# Altium footprint library hello.PcbLib: 23 footprints (part 1 of 2)
Each footprint in its own frame and in the unit in brackets; x right, y up, seen from the top. Pads: shape width x height; smd on the part's side, far side on the other; paste and mask are expansions set on the pad; w line width, h text height; cw(c..) or ccw(c..) is an arc to the next point about the centre after c.
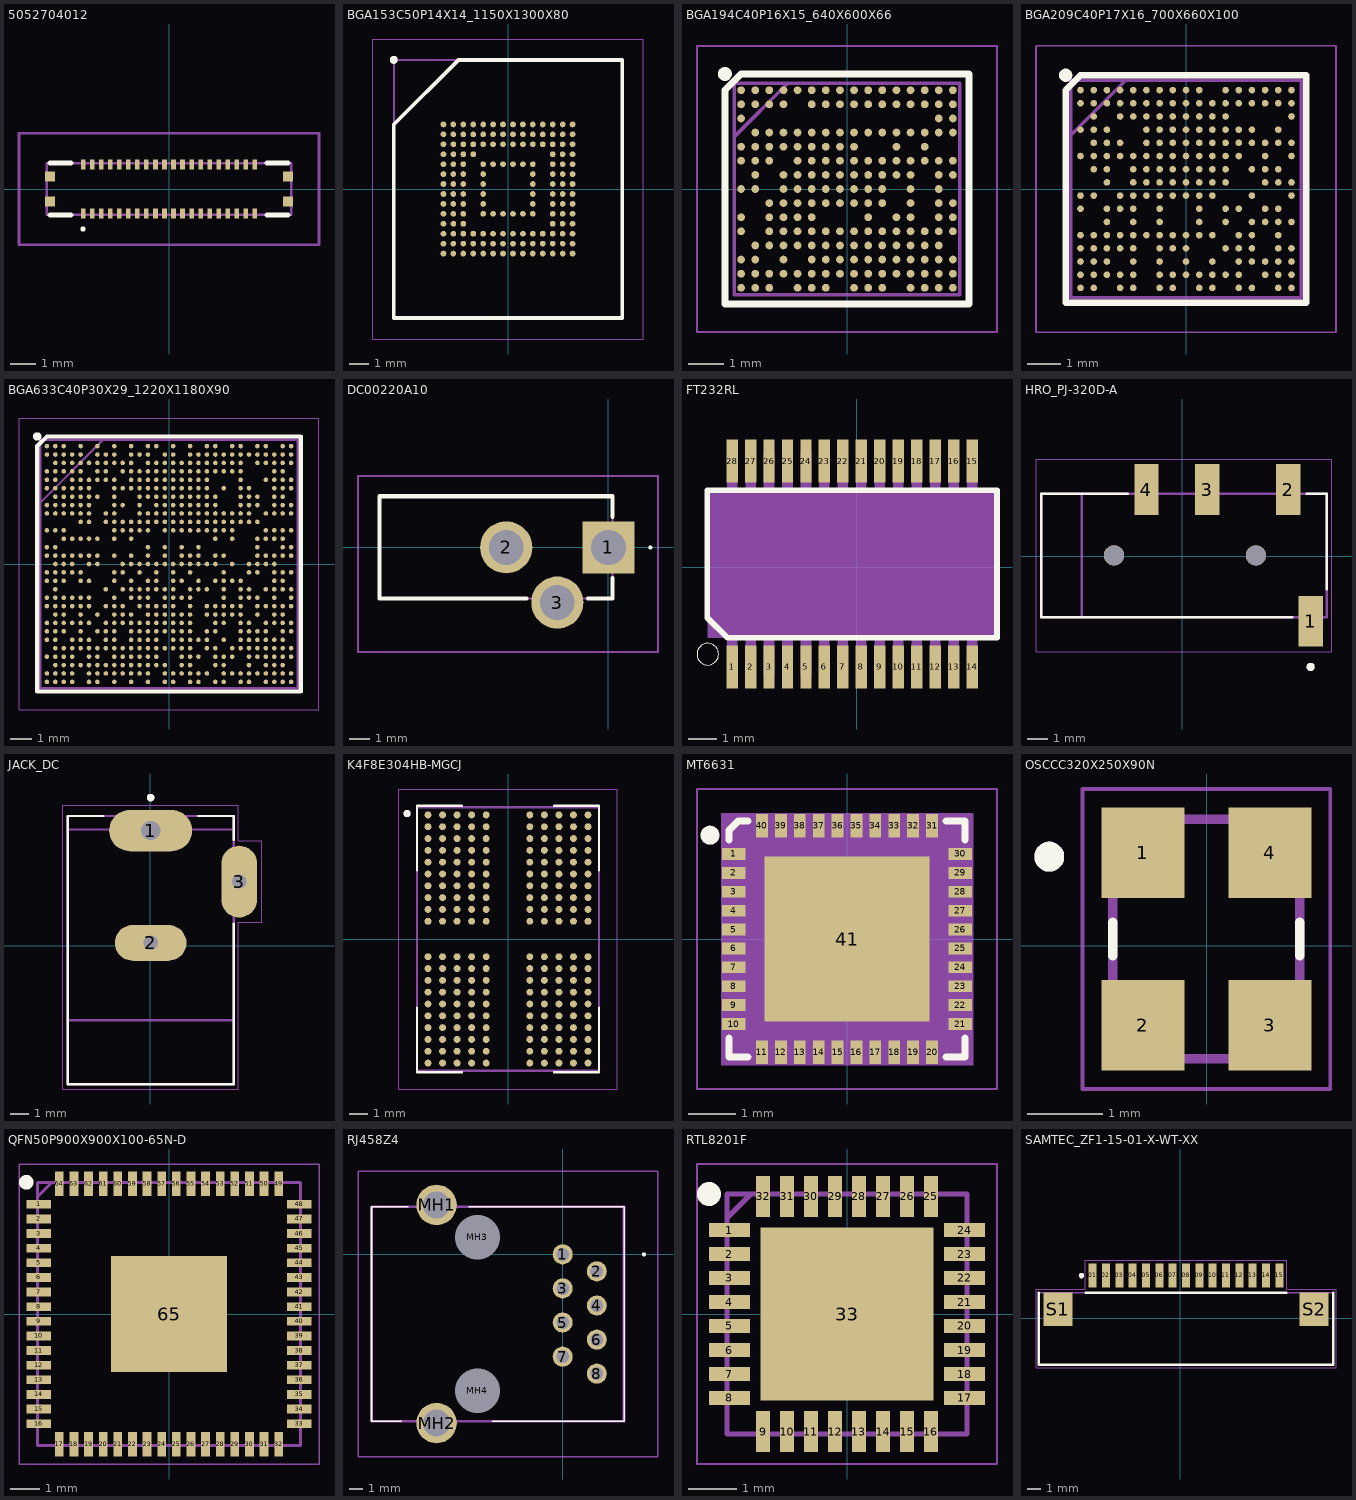
[diagram p0: the footprints below, top view; thin cyan lines are the x and y axes]

## 5052704012 [mm]
pads (44):
  rect 0.18x0.4 smd: 1(-3.325,-0.95) 2(-3.325,0.95) 3(-2.975,-0.95) 4(-2.975,0.95) 5(-2.625,-0.95) 6(-2.625,0.95) 7(-2.275,-0.95) 8(-2.275,0.95) 9(-1.925,-0.95) 10(-1.925,0.95) 11(-1.575,-0.95) 12(-1.575,0.95) 13(-1.225,-0.95) 14(-1.225,0.95) 15(-0.875,-0.95) 16(-0.875,0.95) 17(-0.525,-0.95) 18(-0.525,0.95) 19(-0.175,-0.95) 20(-0.175,0.95) 21(0.175,-0.95) 22(0.175,0.95) 23(0.525,-0.95) 24(0.525,0.95) 25(0.875,-0.95) 26(0.875,0.95) 27(1.225,-0.95) 28(1.225,0.95) 29(1.575,-0.95) 30(1.575,0.95) 31(1.925,-0.95) 32(1.925,0.95) 33(2.275,-0.95) 34(2.275,0.95) 35(2.625,-0.95) 36(2.625,0.95) 37(2.975,-0.95) 38(2.975,0.95) 39(3.325,-0.95) 40(3.325,0.95)
  rect 0.4x0.385 smd: MP1(-4.605,-0.482) MP2(-4.605,0.482) MP3(4.605,-0.482) MP4(4.605,0.482)
Top Overlay:
  lines w0.1: -3.325,-1.6 cw(c-3.325,-1.55) -3.325,-1.5 cw(c-3.325,-1.55) -3.325,-1.6
  lines w0.2: -4.6,-1 -3.8,-1 ; -4.6,1 -3.8,1 ; 3.8,-1 4.6,-1 ; 3.8,1 4.6,1
Mechanical 13:
  lines w0.1: -4.725,-1 4.725,-1 4.725,1 -4.725,1 -4.725,-1
Mechanical 15:
  lines w0.1: -5.805,-2.15 5.805,-2.15 5.805,2.15 -5.805,2.15 -5.805,-2.15
3D body "5052704012.stp": height 0.88, standoff 0, extent -4.767,-1.132 4.767,1.132

## BGA153C50P14X14_1150X1300X80 [mm]
pads (153):
  round 0.29 smd: A1(-3.25,3.25) A2(-2.75,3.25) A3(-2.25,3.25) A4(-1.75,3.25) A5(-1.25,3.25) A6(-0.75,3.25) A7(-0.25,3.25) A8(0.25,3.25) A9(0.75,3.25) A10(1.25,3.25) A11(1.75,3.25) A12(2.25,3.25) A13(2.75,3.25) A14(3.25,3.25) B1(-3.25,2.75) B2(-2.75,2.75) B3(-2.25,2.75) B4(-1.75,2.75) B5(-1.25,2.75) B6(-0.75,2.75) B7(-0.25,2.75) B8(0.25,2.75) B9(0.75,2.75) B10(1.25,2.75) B11(1.75,2.75) B12(2.25,2.75) B13(2.75,2.75) B14(3.25,2.75) C1(-3.25,2.25) C2(-2.75,2.25) C3(-2.25,2.25) C4(-1.75,2.25) C5(-1.25,2.25) C6(-0.75,2.25) C7(-0.25,2.25) C8(0.25,2.25) C9(0.75,2.25) C10(1.25,2.25) C11(1.75,2.25) C12(2.25,2.25) C13(2.75,2.25) C14(3.25,2.25) D1(-3.25,1.75) D2(-2.75,1.75) D3(-2.25,1.75) D4(-1.75,1.75) D12(2.25,1.75) D13(2.75,1.75) D14(3.25,1.75) E1(-3.25,1.25) E2(-2.75,1.25) E3(-2.25,1.25) E5(-1.25,1.25) E6(-0.75,1.25) E7(-0.25,1.25) E8(0.25,1.25) E9(0.75,1.25) E10(1.25,1.25) E12(2.25,1.25) E13(2.75,1.25) E14(3.25,1.25) F1(-3.25,0.75) F2(-2.75,0.75) F3(-2.25,0.75) F5(-1.25,0.75) F10(1.25,0.75) F12(2.25,0.75) F13(2.75,0.75) F14(3.25,0.75) G1(-3.25,0.25) G2(-2.75,0.25) G3(-2.25,0.25) G5(-1.25,0.25) G10(1.25,0.25) G12(2.25,0.25) G13(2.75,0.25) G14(3.25,0.25) H1(-3.25,-0.25) H2(-2.75,-0.25) H3(-2.25,-0.25) H5(-1.25,-0.25) H10(1.25,-0.25) H12(2.25,-0.25) H13(2.75,-0.25) H14(3.25,-0.25) J1(-3.25,-0.75) J2(-2.75,-0.75) J3(-2.25,-0.75) J5(-1.25,-0.75) J10(1.25,-0.75) J12(2.25,-0.75) J13(2.75,-0.75) J14(3.25,-0.75) K1(-3.25,-1.25) K2(-2.75,-1.25) K3(-2.25,-1.25) K5(-1.25,-1.25) K6(-0.75,-1.25) K7(-0.25,-1.25) K8(0.25,-1.25) K9(0.75,-1.25) K10(1.25,-1.25) K12(2.25,-1.25) K13(2.75,-1.25) K14(3.25,-1.25) L1(-3.25,-1.75) L2(-2.75,-1.75) L3(-2.25,-1.75) L12(2.25,-1.75) L13(2.75,-1.75) L14(3.25,-1.75) M1(-3.25,-2.25) M2(-2.75,-2.25) M3(-2.25,-2.25) M4(-1.75,-2.25) M5(-1.25,-2.25) M6(-0.75,-2.25) M7(-0.25,-2.25) M8(0.25,-2.25) M9(0.75,-2.25) M10(1.25,-2.25) M11(1.75,-2.25) M12(2.25,-2.25) M13(2.75,-2.25) M14(3.25,-2.25) N1(-3.25,-2.75) N2(-2.75,-2.75) N3(-2.25,-2.75) N4(-1.75,-2.75) N5(-1.25,-2.75) N6(-0.75,-2.75) N7(-0.25,-2.75) N8(0.25,-2.75) N9(0.75,-2.75) N10(1.25,-2.75) N11(1.75,-2.75) N12(2.25,-2.75) N13(2.75,-2.75) N14(3.25,-2.75) P1(-3.25,-3.25) P2(-2.75,-3.25) P3(-2.25,-3.25) P4(-1.75,-3.25) P5(-1.25,-3.25) P6(-0.75,-3.25) P7(-0.25,-3.25) P8(0.25,-3.25) P9(0.75,-3.25) P10(1.25,-3.25) P11(1.75,-3.25) P12(2.25,-3.25) P13(2.75,-3.25) P14(3.25,-3.25)
Top Overlay:
  circle w0.2: c-5.75,6.5 r0.1
  lines w0.2: -5.75,-6.5 5.75,-6.5 5.75,6.5 -2.5,6.5 -5.75,3.25 -5.75,-6.5
Mechanical 13:
  lines w0.1: -5.75,3.225 -2.475,6.5 ; -5.75,-6.5 5.75,-6.5 5.75,6.5 -5.75,6.5 -5.75,-6.5
Mechanical 15:
  lines w0.05: -6.8,-7.55 6.8,-7.55 6.8,7.55 -6.8,7.55 -6.8,-7.55
3D body "KLMAG1JETD-B041.stp": height 0.8, standoff 0, extent -5.75,-6.5 5.75,6.5

## BGA194C40P16X15_640X600X66 [mm]
pads (194):
  round 0.22 smd: A1(-3,2.8) A2(-2.6,2.8) A3(-2.2,2.8) A4(-1.8,2.8) A5(-1.4,2.8) A6(-1,2.8) A7(-0.6,2.8) A8(-0.2,2.8) A9(0.2,2.8) A10(0.6,2.8) A11(1,2.8) A12(1.4,2.8) A13(1.8,2.8) A14(2.2,2.8) A15(2.6,2.8) A16(3,2.8) B1(-3,2.4) B2(-2.6,2.4) B3(-2.2,2.4) B4(-1.8,2.4) B6(-1,2.4) B7(-0.6,2.4) B8(-0.2,2.4) B9(0.2,2.4) B10(0.6,2.4) B11(1,2.4) B12(1.4,2.4) B13(1.8,2.4) B14(2.2,2.4) B15(2.6,2.4) B16(3,2.4) C1(-3,2) C15(2.6,2) C16(3,2) D2(-2.6,1.6) D3(-2.2,1.6) D4(-1.8,1.6) D5(-1.4,1.6) D6(-1,1.6) D7(-0.6,1.6) D8(-0.2,1.6) D9(0.2,1.6) D10(0.6,1.6) D11(1,1.6) D12(1.4,1.6) D13(1.8,1.6) D14(2.2,1.6) D15(2.6,1.6) D16(3,1.6) E1(-3,1.2) E2(-2.6,1.2) E3(-2.2,1.2) E4(-1.8,1.2) E5(-1.4,1.2) E6(-1,1.2) E7(-0.6,1.2) E8(-0.2,1.2) E9(0.2,1.2) E12(1.4,1.2) E14(2.2,1.2) F1(-3,0.8) F2(-2.6,0.8) F3(-2.2,0.8) F5(-1.4,0.8) F6(-1,0.8) F7(-0.6,0.8) F8(-0.2,0.8) F9(0.2,0.8) F10(0.6,0.8) F11(1,0.8) F12(1.4,0.8) F13(1.8,0.8) F14(2.2,0.8) F15(2.6,0.8) F16(3,0.8) G2(-2.6,0.4) G4(-1.8,0.4) G5(-1.4,0.4) G6(-1,0.4) G7(-0.6,0.4) G8(-0.2,0.4) G9(0.2,0.4) G10(0.6,0.4) G11(1,0.4) G12(1.4,0.4) G13(1.8,0.4) G15(2.6,0.4) G16(3,0.4) H1(-3,0) H2(-2.6,0) H4(-1.8,0) H5(-1.4,0) H6(-1,0) H7(-0.6,0) H8(-0.2,0) H9(0.2,0) H10(0.6,0) H11(1,0) H13(1.8,0) H15(2.6,0) J3(-2.2,-0.4) J4(-1.8,-0.4) J5(-1.4,-0.4) J6(-1,-0.4) J7(-0.6,-0.4) J8(-0.2,-0.4) J9(0.2,-0.4) J10(0.6,-0.4) J11(1,-0.4) J13(1.8,-0.4) J15(2.6,-0.4) J16(3,-0.4) K1(-3,-0.8) K3(-2.2,-0.8) K4(-1.8,-0.8) K5(-1.4,-0.8) K6(-1,-0.8) K10(0.6,-0.8) K12(1.4,-0.8) K13(1.8,-0.8) K15(2.6,-0.8) K16(3,-0.8) L1(-3,-1.2) L3(-2.2,-1.2) L4(-1.8,-1.2) L5(-1.4,-1.2) L6(-1,-1.2) L7(-0.6,-1.2) L8(-0.2,-1.2) L9(0.2,-1.2) L10(0.6,-1.2) L11(1,-1.2) L12(1.4,-1.2) L13(1.8,-1.2) L14(2.2,-1.2) L15(2.6,-1.2) L16(3,-1.2) M2(-2.6,-1.6) M3(-2.2,-1.6) M4(-1.8,-1.6) M5(-1.4,-1.6) M6(-1,-1.6) M7(-0.6,-1.6) M8(-0.2,-1.6) M9(0.2,-1.6) M10(0.6,-1.6) M11(1,-1.6) M12(1.4,-1.6) M13(1.8,-1.6) M14(2.2,-1.6) M15(2.6,-1.6) N1(-3,-2) N2(-2.6,-2) N4(-1.8,-2) N6(-1,-2) N7(-0.6,-2) N8(-0.2,-2) N9(0.2,-2) N10(0.6,-2) N11(1,-2) N12(1.4,-2) N13(1.8,-2) N14(2.2,-2) N15(2.6,-2) N16(3,-2) P1(-3,-2.4) P2(-2.6,-2.4) P3(-2.2,-2.4) P4(-1.8,-2.4) P5(-1.4,-2.4) P6(-1,-2.4) P7(-0.6,-2.4) P8(-0.2,-2.4) P9(0.2,-2.4) P10(0.6,-2.4) P11(1,-2.4) P12(1.4,-2.4) P13(1.8,-2.4) P14(2.2,-2.4) P15(2.6,-2.4) P16(3,-2.4) R1(-3,-2.8) R2(-2.6,-2.8) R3(-2.2,-2.8) R5(-1.4,-2.8) R6(-1,-2.8) R7(-0.6,-2.8) R9(0.2,-2.8) R10(0.6,-2.8) R11(1,-2.8) R13(1.8,-2.8) R14(2.2,-2.8) R15(2.6,-2.8) R16(3,-2.8)
Top Overlay:
  circle w0.2: c-3.46,3.26 r0.1
  lines w0.2: -3.46,-3.26 3.46,-3.26 3.46,3.26 -3,3.26 -3.46,2.8 -3.46,-3.26
Mechanical 13:
  lines w0.1: -3.2,1.475 -1.675,3 ; -3.2,-3 3.2,-3 3.2,3 -3.2,3 -3.2,-3
Mechanical 15:
  lines w0.05: -4.25,-4.05 4.25,-4.05 4.25,4.05 -4.25,4.05 -4.25,-4.05
3D body "MT6358W_A.stp": height 0.66, standoff 0, extent -3.2,-3 3.2,3

## BGA209C40P17X16_700X660X100 [mm]
pads (209):
  round 0.2 smd: A1(-3.2,3) A2(-2.8,3) A3(-2.4,3) A4(-2,3) A5(-1.6,3) A6(-1.2,3) A7(-0.8,3) A8(-0.4,3) A9(0,3) A10(0.4,3) A12(1.2,3) A13(1.6,3) A14(2,3) A15(2.4,3) A16(2.8,3) A17(3.2,3) B1(-3.2,2.6) B2(-2.8,2.6) B3(-2.4,2.6) B4(-2,2.6) B5(-1.6,2.6) B6(-1.2,2.6) B7(-0.8,2.6) B8(-0.4,2.6) B9(0,2.6) B10(0.4,2.6) B11(0.8,2.6) B12(1.2,2.6) B13(1.6,2.6) B14(2,2.6) B15(2.4,2.6) B16(2.8,2.6) B17(3.2,2.6) C2(-2.8,2.2) C4(-2,2.2) C5(-1.6,2.2) C6(-1.2,2.2) C7(-0.8,2.2) C8(-0.4,2.2) C9(0,2.2) C10(0.4,2.2) C11(0.8,2.2) C12(1.2,2.2) C17(3.2,2.2) D1(-3.2,1.8) D2(-2.8,1.8) D3(-2.4,1.8) D6(-1.2,1.8) D7(-0.8,1.8) D8(-0.4,1.8) D9(0,1.8) D10(0.4,1.8) D11(0.8,1.8) D12(1.2,1.8) D13(1.6,1.8) D14(2,1.8) D16(2.8,1.8) E2(-2.8,1.4) E3(-2.4,1.4) E4(-2,1.4) E6(-1.2,1.4) E7(-0.8,1.4) E8(-0.4,1.4) E9(0,1.4) E10(0.4,1.4) E11(0.8,1.4) E12(1.2,1.4) E13(1.6,1.4) E14(2,1.4) E15(2.4,1.4) E16(2.8,1.4) E17(3.2,1.4) F1(-3.2,1) F2(-2.8,1) F3(-2.4,1) F4(-2,1) F5(-1.6,1) F6(-1.2,1) F7(-0.8,1) F8(-0.4,1) F9(0,1) F10(0.4,1) F11(0.8,1) F12(1.2,1) F13(1.6,1) F15(2.4,1) F17(3.2,1) G2(-2.8,0.6) G3(-2.4,0.6) G5(-1.6,0.6) G6(-1.2,0.6) G7(-0.8,0.6) G8(-0.4,0.6) G9(0,0.6) G10(0.4,0.6) G11(0.8,0.6) G12(1.2,0.6) G14(2,0.6) G15(2.4,0.6) G16(2.8,0.6) H3(-2.4,0.2) H5(-1.6,0.2) H6(-1.2,0.2) H7(-0.8,0.2) H8(-0.4,0.2) H9(0,0.2) H10(0.4,0.2) H11(0.8,0.2) H12(1.2,0.2) H15(2.4,0.2) H16(2.8,0.2) H17(3.2,0.2) J1(-3.2,-0.2) J2(-2.8,-0.2) J4(-2,-0.2) J5(-1.6,-0.2) J6(-1.2,-0.2) J7(-0.8,-0.2) J8(-0.4,-0.2) J9(0,-0.2) J10(0.4,-0.2) J11(0.8,-0.2) J14(2,-0.2) J17(3.2,-0.2) K1(-3.2,-0.6) K3(-2.4,-0.6) K4(-2,-0.6) K5(-1.6,-0.6) K7(-0.8,-0.6) K10(0.4,-0.6) K12(1.2,-0.6) K13(1.6,-0.6) K15(2.4,-0.6) K16(2.8,-0.6) L3(-2.4,-1) L5(-1.6,-1) L7(-0.8,-1) L10(0.4,-1) L12(1.2,-1) L14(2,-1) L15(2.4,-1) L16(2.8,-1) L17(3.2,-1) M1(-3.2,-1.4) M2(-2.8,-1.4) M3(-2.4,-1.4) M4(-2,-1.4) M5(-1.6,-1.4) M6(-1.2,-1.4) M7(-0.8,-1.4) M8(-0.4,-1.4) M9(0,-1.4) M10(0.4,-1.4) M11(0.8,-1.4) M13(1.6,-1.4) M14(2,-1.4) M16(2.8,-1.4) N1(-3.2,-1.8) N2(-2.8,-1.8) N3(-2.4,-1.8) N4(-2,-1.8) N5(-1.6,-1.8) N7(-0.8,-1.8) N8(-0.4,-1.8) N9(0,-1.8) N12(1.2,-1.8) N13(1.6,-1.8) N14(2,-1.8) N16(2.8,-1.8) N17(3.2,-1.8) P1(-3.2,-2.2) P2(-2.8,-2.2) P3(-2.4,-2.2) P5(-1.6,-2.2) P7(-0.8,-2.2) P9(0,-2.2) P11(0.8,-2.2) P13(1.6,-2.2) P14(2,-2.2) P15(2.4,-2.2) P16(2.8,-2.2) P17(3.2,-2.2) R1(-3.2,-2.6) R2(-2.8,-2.6) R3(-2.4,-2.6) R4(-2,-2.6) R5(-1.6,-2.6) R7(-0.8,-2.6) R8(-0.4,-2.6) R9(0,-2.6) R10(0.4,-2.6) R11(0.8,-2.6) R12(1.2,-2.6) R13(1.6,-2.6) R15(2.4,-2.6) R16(2.8,-2.6) R17(3.2,-2.6) T1(-3.2,-3) T2(-2.8,-3) T4(-2,-3) T5(-1.6,-3) T7(-0.8,-3) T8(-0.4,-3) T10(0.4,-3) T11(0.8,-3) T13(1.6,-3) T14(2,-3) T16(2.8,-3) T17(3.2,-3)
Top Overlay:
  circle w0.2: c-3.65,3.45 r0.1
  lines w0.2: -3.65,-3.45 -3.65,3 -3.2,3.45 3.65,3.45 3.65,-3.45 -3.65,-3.45
Mechanical 13:
  lines w0.1: -3.5,1.625 -1.825,3.3 ; -3.5,-3.3 -3.5,3.3 3.5,3.3 3.5,-3.3 -3.5,-3.3
Mechanical 15:
  lines w0.05: -4.55,-4.35 -4.55,4.35 4.55,4.35 4.55,-4.35 -4.55,-4.35
3D body "MT6357ARV_A.stp": height 1, standoff 0, extent -3.5,-3.3 3.5,3.3

## BGA633C40P30X29_1220X1180X90 [mm]
pads (633):
  round 0.216 smd: A1(-5.8,5.6) A2(-5.4,5.6) A3(-5,5.6) A5(-4.2,5.6) A7(-3.4,5.6) A9(-2.6,5.6) A11(-1.8,5.6) A13(-1,5.6) A14(-0.6,5.6) A16(0.2,5.6) A18(1,5.6) A20(1.8,5.6) A21(2.2,5.6) A23(3,5.6) A24(3.4,5.6) A26(4.2,5.6) A27(4.6,5.6) A29(5.4,5.6) A30(5.8,5.6) AA2(-5.4,-2.4) AA3(-5,-2.4) AA5(-4.2,-2.4) AA7(-3.4,-2.4) AA9(-2.6,-2.4) AA10(-2.2,-2.4) AA11(-1.8,-2.4) AA13(-1,-2.4) AA14(-0.6,-2.4) AA15(-0.2,-2.4) AA16(0.2,-2.4) AA17(0.6,-2.4) AA18(1,-2.4) AA20(1.8,-2.4) AA21(2.2,-2.4) AA22(2.6,-2.4) AA23(3,-2.4) AA24(3.4,-2.4) AA26(4.2,-2.4) AA28(5,-2.4) AA29(5.4,-2.4) AB1(-5.8,-2.8) AB2(-5.4,-2.8) AB3(-5,-2.8) AB4(-4.6,-2.8) AB5(-4.2,-2.8) AB6(-3.8,-2.8) AB8(-3,-2.8) AB9(-2.6,-2.8) AB10(-2.2,-2.8) AB11(-1.8,-2.8) AB12(-1.4,-2.8) AB13(-1,-2.8) AB14(-0.6,-2.8) AB15(-0.2,-2.8) AB16(0.2,-2.8) AB17(0.6,-2.8) AB18(1,-2.8) AB21(2.2,-2.8) AB22(2.6,-2.8) AB24(3.4,-2.8) AB25(3.8,-2.8) AB27(4.6,-2.8) AB28(5,-2.8) AB29(5.4,-2.8) AB30(5.8,-2.8) AC1(-5.8,-3.2) AC2(-5.4,-3.2) AC3(-5,-3.2) AC5(-4.2,-3.2) AC7(-3.4,-3.2) AC8(-3,-3.2) AC9(-2.6,-3.2) AC11(-1.8,-3.2) AC12(-1.4,-3.2) AC13(-1,-3.2) AC14(-0.6,-3.2) AC15(-0.2,-3.2) AC16(0.2,-3.2) AC17(0.6,-3.2) AC18(1,-3.2) AC20(1.8,-3.2) AC21(2.2,-3.2) AC24(3.4,-3.2) AC25(3.8,-3.2) AC26(4.2,-3.2) AC27(4.6,-3.2) AC29(5.4,-3.2) AC30(5.8,-3.2) AD1(-5.8,-3.6) AD2(-5.4,-3.6) AD4(-4.6,-3.6) AD5(-4.2,-3.6) AD6(-3.8,-3.6) AD8(-3,-3.6) AD9(-2.6,-3.6) AD11(-1.8,-3.6) AD12(-1.4,-3.6) AD13(-1,-3.6) AD14(-0.6,-3.6) AD16(0.2,-3.6) AD17(0.6,-3.6) AD18(1,-3.6) AD19(1.4,-3.6) AD20(1.8,-3.6) AD22(2.6,-3.6) AD24(3.4,-3.6) AD25(3.8,-3.6) AD26(4.2,-3.6) AD27(4.6,-3.6) AD28(5,-3.6) AD29(5.4,-3.6) AE2(-5.4,-4) AE3(-5,-4) AE4(-4.6,-4) AE5(-4.2,-4) AE6(-3.8,-4) AE7(-3.4,-4) AE8(-3,-4) AE9(-2.6,-4) AE10(-2.2,-4) AE11(-1.8,-4) AE12(-1.4,-4) AE13(-1,-4) AE14(-0.6,-4) AE15(-0.2,-4) AE16(0.2,-4) AE17(0.6,-4) AE18(1,-4) AE20(1.8,-4) AE21(2.2,-4) AE23(3,-4) AE24(3.4,-4) AE25(3.8,-4) AE26(4.2,-4) AE27(4.6,-4) AE28(5,-4) AE29(5.4,-4) AE30(5.8,-4) AF1(-5.8,-4.4) AF2(-5.4,-4.4) AF3(-5,-4.4) AF4(-4.6,-4.4) AF6(-3.8,-4.4) AF7(-3.4,-4.4) AF9(-2.6,-4.4) AF10(-2.2,-4.4) AF11(-1.8,-4.4) AF12(-1.4,-4.4) AF13(-1,-4.4) AF14(-0.6,-4.4) AF17(0.6,-4.4) AF18(1,-4.4) AF19(1.4,-4.4) AF21(2.2,-4.4) AF22(2.6,-4.4) AF23(3,-4.4) AF25(3.8,-4.4) AF26(4.2,-4.4) AF27(4.6,-4.4) AF28(5,-4.4) AF29(5.4,-4.4) AF30(5.8,-4.4) AG2(-5.4,-4.8) AG3(-5,-4.8) AG4(-4.6,-4.8) AG5(-4.2,-4.8) AG6(-3.8,-4.8) AG7(-3.4,-4.8) AG8(-3,-4.8) AG9(-2.6,-4.8) AG10(-2.2,-4.8) AG11(-1.8,-4.8) AG12(-1.4,-4.8) AG13(-1,-4.8) AG14(-0.6,-4.8) AG15(-0.2,-4.8) AG17(0.6,-4.8) AG18(1,-4.8) AG21(2.2,-4.8) AG22(2.6,-4.8) AG25(3.8,-4.8) AG27(4.6,-4.8) AG28(5,-4.8) AG29(5.4,-4.8) AH1(-5.8,-5.2) AH2(-5.4,-5.2) AH3(-5,-5.2) AH4(-4.6,-5.2) AH6(-3.8,-5.2) AH7(-3.4,-5.2) AH8(-3,-5.2) AH9(-2.6,-5.2) AH10(-2.2,-5.2) AH11(-1.8,-5.2) AH12(-1.4,-5.2) AH13(-1,-5.2) AH15(-0.2,-5.2) AH16(0.2,-5.2) AH17(0.6,-5.2) AH18(1,-5.2) AH19(1.4,-5.2) AH20(1.8,-5.2) AH22(2.6,-5.2) AH23(3,-5.2) AH24(3.4,-5.2) AH25(3.8,-5.2) AH26(4.2,-5.2) AH27(4.6,-5.2) AH28(5,-5.2) AH29(5.4,-5.2) AH30(5.8,-5.2) AJ1(-5.8,-5.6) AJ2(-5.4,-5.6) AJ3(-5,-5.6) AJ4(-4.6,-5.6) AJ6(-3.8,-5.6) AJ7(-3.4,-5.6) AJ9(-2.6,-5.6) AJ11(-1.8,-5.6) AJ13(-1,-5.6) AJ15(-0.2,-5.6) AJ16(0.2,-5.6) AJ18(1,-5.6) AJ19(1.4,-5.6) AJ21(2.2,-5.6) AJ22(2.6,-5.6) AJ24(3.4,-5.6) AJ25(3.8,-5.6) AJ27(4.6,-5.6) AJ28(5,-5.6) AJ29(5.4,-5.6) AJ30(5.8,-5.6) B1(-5.8,5.2) B2(-5.4,5.2) B3(-5,5.2) B4(-4.6,5.2) B5(-4.2,5.2) B7(-3.4,5.2) B8(-3,5.2) B9(-2.6,5.2) B11(-1.8,5.2) B12(-1.4,5.2) B13(-1,5.2) B15(-0.2,5.2) B16(0.2,5.2) B18(1,5.2) B19(1.4,5.2) B20(1.8,5.2) B21(2.2,5.2) B22(2.6,5.2) B23(3,5.2) B24(3.4,5.2) B25(3.8,5.2) B26(4.2,5.2) B27(4.6,5.2) B28(5,5.2) B29(5.4,5.2) B30(5.8,5.2) C2(-5.4,4.8) C3(-5,4.8) C4(-4.6,4.8) C5(-4.2,4.8) C6(-3.8,4.8) C7(-3.4,4.8) C8(-3,4.8) C9(-2.6,4.8) C10(-2.2,4.8) C11(-1.8,4.8) C13(-1,4.8) C14(-0.6,4.8) C15(-0.2,4.8) C16(0.2,4.8) C17(0.6,4.8) C18(1,4.8) C19(1.4,4.8) C20(1.8,4.8) C21(2.2,4.8) C22(2.6,4.8) C23(3,4.8) C24(3.4,4.8) C26(4.2,4.8) C27(4.6,4.8) C28(5,4.8) C29(5.4,4.8) C30(5.8,4.8) D1(-5.8,4.4) D2(-5.4,4.4) D3(-5,4.4) D4(-4.6,4.4) D5(-4.2,4.4) D7(-3.4,4.4) D8(-3,4.4) D10(-2.2,4.4) D11(-1.8,4.4) D12(-1.4,4.4) D13(-1,4.4) D14(-0.6,4.4) D15(-0.2,4.4) D16(0.2,4.4) D17(0.6,4.4) D18(1,4.4) D19(1.4,4.4) D20(1.8,4.4) D21(2.2,4.4) D22(2.6,4.4) D23(3,4.4) D24(3.4,4.4) D28(5,4.4) D29(5.4,4.4) E1(-5.8,4) E2(-5.4,4) E4(-4.6,4) E5(-4.2,4) E6(-3.8,4) E7(-3.4,4) E8(-3,4) E9(-2.6,4) E11(-1.8,4) E12(-1.4,4) E13(-1,4) E14(-0.6,4) E15(-0.2,4) E16(0.2,4) E17(0.6,4) E18(1,4) E19(1.4,4) E20(1.8,4) E24(3.4,4) E27(4.6,4) E28(5,4) E29(5.4,4) E30(5.8,4) F1(-5.8,3.6) F2(-5.4,3.6) F3(-5,3.6) F4(-4.6,3.6) F5(-4.2,3.6) F6(-3.8,3.6) F9(-2.6,3.6) F10(-2.2,3.6) F11(-1.8,3.6) F12(-1.4,3.6) F13(-1,3.6) F14(-0.6,3.6) F15(-0.2,3.6) F16(0.2,3.6) F17(0.6,3.6) F18(1,3.6) F19(1.4,3.6) F20(1.8,3.6) F22(2.6,3.6) F24(3.4,3.6) F25(3.8,3.6) F28(5,3.6) F29(5.4,3.6) F30(5.8,3.6) G2(-5.4,3.2) G3(-5,3.2) G4(-4.6,3.2) G5(-4.2,3.2) G6(-3.8,3.2) G7(-3.4,3.2) G9(-2.6,3.2) G12(-1.4,3.2) G13(-1,3.2) G14(-0.6,3.2) G15(-0.2,3.2) G16(0.2,3.2) G17(0.6,3.2) G18(1,3.2) G19(1.4,3.2) G20(1.8,3.2) G21(2.2,3.2) G24(3.4,3.2) G25(3.8,3.2) G26(4.2,3.2) G28(5,3.2) G29(5.4,3.2) H1(-5.8,2.8) H2(-5.4,2.8) H3(-5,2.8) H4(-4.6,2.8) H5(-4.2,2.8) H6(-3.8,2.8) H9(-2.6,2.8) H10(-2.2,2.8) H12(-1.4,2.8) H14(-0.6,2.8) H15(-0.2,2.8) H16(0.2,2.8) H17(0.6,2.8) H18(1,2.8) H19(1.4,2.8) H20(1.8,2.8) H21(2.2,2.8) H24(3.4,2.8) H25(3.8,2.8) H26(4.2,2.8) H28(5,2.8) H29(5.4,2.8) H30(5.8,2.8) J1(-5.8,2.4) J2(-5.4,2.4) J3(-5,2.4) J4(-4.6,2.4) J5(-4.2,2.4) J6(-3.8,2.4) J8(-3,2.4) J9(-2.6,2.4) J12(-1.4,2.4) J13(-1,2.4) J14(-0.6,2.4) J15(-0.2,2.4) J16(0.2,2.4) J17(0.6,2.4) J18(1,2.4) J19(1.4,2.4) J20(1.8,2.4) J21(2.2,2.4) J22(2.6,2.4) J23(3,2.4) J24(3.4,2.4) J25(3.8,2.4) J27(4.6,2.4) J28(5,2.4) J29(5.4,2.4) J30(5.8,2.4) K5(-4.2,2) K6(-3.8,2) K8(-3,2) K9(-2.6,2) K10(-2.2,2) K11(-1.8,2) K12(-1.4,2) K13(-1,2) K14(-0.6,2) K15(-0.2,2) K16(0.2,2) K17(0.6,2) K18(1,2) K19(1.4,2) K20(1.8,2) K21(2.2,2) K22(2.6,2) K23(3,2) K24(3.4,2) K25(3.8,2) K26(4.2,2) L1(-5.8,1.6) L2(-5.4,1.6) L3(-5,1.6) L9(-2.6,1.6) L10(-2.2,1.6) L11(-1.8,1.6) L12(-1.4,1.6) L13(-1,1.6) L15(-0.2,1.6) L16(0.2,1.6) L17(0.6,1.6) L18(1,1.6) L19(1.4,1.6) L20(1.8,1.6) L21(2.2,1.6) L22(2.6,1.6) L23(3,1.6) L27(4.6,1.6) L28(5,1.6) L29(5.4,1.6) L30(5.8,1.6) M3(-5,1.2) M4(-4.6,1.2) M5(-4.2,1.2) M6(-3.8,1.2) M7(-3.4,1.2) M9(-2.6,1.2) M11(-1.8,1.2) M21(2.2,1.2) M23(3,1.2) M26(4.2,1.2) M27(4.6,1.2) M28(5,1.2) M29(5.4,1.2) N1(-5.8,0.8) N2(-5.4,0.8) N13(-1,0.8) N15(-0.2,0.8) N17(0.6,0.8) N19(1.4,0.8) N26(4.2,0.8) N29(5.4,0.8) N30(5.8,0.8) P1(-5.8,0.4) P2(-5.4,0.4) P3(-5,0.4) P4(-4.6,0.4) P5(-4.2,0.4) P6(-3.8,0.4) P7(-3.4,0.4) P9(-2.6,0.4) P11(-1.8,0.4) P13(-1,0.4) P15(-0.2,0.4) P17(0.6,0.4) P18(1,0.4) P19(1.4,0.4) P21(2.2,0.4) P22(2.6,0.4) P26(4.2,0.4) P27(4.6,0.4) P28(5,0.4) P29(5.4,0.4) P30(5.8,0.4) R2(-5.4,0) R3(-5,0) R4(-4.6,0) R6(-3.8,0) R7(-3.4,0) R10(-2.2,0) R11(-1.8,0) R12(-1.4,0) R13(-1,0) R14(-0.6,0) R15(-0.2,0) R16(0.2,0) R17(0.6,0) R18(1,0) R19(1.4,0) R20(1.8,0) R21(2.2,0) R23(3,0) R25(3.8,0) R26(4.2,0) R27(4.6,0) R28(5,0) T1(-5.8,-0.4) T2(-5.4,-0.4) T3(-5,-0.4) T4(-4.6,-0.4) T5(-4.2,-0.4) T9(-2.6,-0.4) T10(-2.2,-0.4) T12(-1.4,-0.4) T14(-0.6,-0.4) T16(0.2,-0.4) T18(1,-0.4) T22(2.6,-0.4) T25(3.8,-0.4) T26(4.2,-0.4) T28(5,-0.4) T29(5.4,-0.4) T30(5.8,-0.4) U1(-5.8,-0.8) U2(-5.4,-0.8) U3(-5,-0.8) U5(-4.2,-0.8) U6(-3.8,-0.8) U9(-2.6,-0.8) U11(-1.8,-0.8) U13(-1,-0.8) U14(-0.6,-0.8) U16(0.2,-0.8) U17(0.6,-0.8) U19(1.4,-0.8) U21(2.2,-0.8) U22(2.6,-0.8) U23(3,-0.8) U24(3.4,-0.8) U28(5,-0.8) U29(5.4,-0.8) V2(-5.4,-1.2) V8(-3,-1.2) V10(-2.2,-1.2) V11(-1.8,-1.2) V12(-1.4,-1.2) V13(-1,-1.2) V14(-0.6,-1.2) V15(-0.2,-1.2) V16(0.2,-1.2) V18(1,-1.2) V19(1.4,-1.2) V20(1.8,-1.2) V22(2.6,-1.2) V24(3.4,-1.2) V25(3.8,-1.2) V27(4.6,-1.2) V28(5,-1.2) V29(5.4,-1.2) V30(5.8,-1.2) W1(-5.8,-1.6) W2(-5.4,-1.6) W3(-5,-1.6) W4(-4.6,-1.6) W5(-4.2,-1.6) W6(-3.8,-1.6) W9(-2.6,-1.6) W11(-1.8,-1.6) W12(-1.4,-1.6) W13(-1,-1.6) W15(-0.2,-1.6) W16(0.2,-1.6) W17(0.6,-1.6) W18(1,-1.6) W22(2.6,-1.6) W24(3.4,-1.6) W25(3.8,-1.6) W26(4.2,-1.6) W28(5,-1.6) W30(5.8,-1.6) Y1(-5.8,-2) Y2(-5.4,-2) Y3(-5,-2) Y4(-4.6,-2) Y5(-4.2,-2) Y6(-3.8,-2) Y8(-3,-2) Y9(-2.6,-2) Y10(-2.2,-2) Y12(-1.4,-2) Y13(-1,-2) Y14(-0.6,-2) Y15(-0.2,-2) Y16(0.2,-2) Y18(1,-2) Y20(1.8,-2) Y21(2.2,-2) Y22(2.6,-2) Y23(3,-2) Y24(3.4,-2) Y26(4.2,-2) Y27(4.6,-2) Y28(5,-2) Y29(5.4,-2) Y30(5.8,-2)
Top Overlay:
  circle w0.2: c-6.258,6.058 r0.1
  lines w0.2: -6.258,-6.058 -6.258,5.6 -5.8,6.058 6.258,6.058 6.258,-6.058 -6.258,-6.058
Mechanical 13:
  lines w0.1: -6.1,2.938 -3.138,5.9 ; -6.1,-5.9 -6.1,5.9 6.1,5.9 6.1,-5.9 -6.1,-5.9
Mechanical 15:
  lines w0.05: -7.125,-6.925 -7.125,6.925 7.125,6.925 7.125,-6.925 -7.125,-6.925
3D body "MT8365V_BZB.stp": height 0.9, standoff 0, extent -6.1,-5.9 6.1,5.9

## DC00220A10 [mm]
pads (3):
  rect 2.55x2.55 hole 1.7: 1(0,0)
  round 2.55 hole 1.7: 2(-5,0) 3(-2.5,-2.7)
Top Overlay:
  lines w0.1: 2,0 cw(c2.05,0) 2.1,0 cw(c2.05,0) 2,0
  lines w0.2: -4,-2.5 -11.2,-2.5 -11.2,2.5 0.2,2.5 0.2,1.5 ; -1,-2.5 0.2,-2.5 0.2,-1.5
Mechanical 13:
  lines w0.1: -11.2,-2.5 -11.2,2.5 0.2,2.5 0.2,-2.5 -11.2,-2.5
Mechanical 15:
  lines w0.1: -12.25,-5.125 -12.25,3.5 2.425,3.5 2.425,-5.125 -12.25,-5.125
3D body "DC-002-2.0A-1.0.stp": height 8.1, standoff -2.5, extent -11.03,-3.05 0.37,2.3

## FT232RL [mm]
pads (28):
  rect 0.4x1.5 smd: 1(-4.396,-3.514) 2(-3.746,-3.514) 3(-3.096,-3.514) 4(-2.446,-3.514) 5(-1.796,-3.514) 6(-1.146,-3.514) 7(-0.496,-3.514) 8(0.154,-3.514) 9(0.804,-3.514) 10(1.454,-3.514) 11(2.104,-3.514) 12(2.754,-3.514) 13(3.404,-3.514) 14(4.054,-3.514) 15(4.054,3.736) 16(3.404,3.736) 17(2.754,3.736) 18(2.104,3.736) 19(1.454,3.736) 20(0.804,3.736) 21(0.154,3.736) 22(-0.496,3.736) 23(-1.146,3.736) 24(-1.796,3.736) 25(-2.446,3.736) 26(-3.096,3.736) 27(-3.746,3.736) 28(-4.396,3.736)
Top Overlay:
  circle w0: c-5.251,-3.064 r0.381
  lines w0.203: -5.271,-1.778 -5.271,2.711 4.929,2.711 4.929,-2.489 -4.561,-2.489 -5.271,-1.778
Mechanical 13:
  region: -4.218,-3.826 -4.574,-3.826 -4.574,-2.53 -4.218,-2.53
  region: -3.568,-3.826 -3.924,-3.826 -3.924,-2.53 -3.568,-2.53
  region: -2.918,-3.826 -3.274,-3.826 -3.274,-2.53 -2.918,-2.53
  region: -2.268,-3.826 -2.624,-3.826 -2.624,-2.53 -2.268,-2.53
  region: -1.618,-3.826 -1.974,-3.826 -1.974,-2.53 -1.618,-2.53
  region: -0.968,-3.826 -1.324,-3.826 -1.324,-2.53 -0.968,-2.53
  region: -0.318,-3.826 -0.674,-3.826 -0.674,-2.53 -0.318,-2.53
  region: 0.332,-3.826 -0.024,-3.826 -0.024,-2.53 0.332,-2.53
  region: 0.982,-3.826 0.626,-3.826 0.626,-2.53 0.982,-2.53
  region: 1.632,-3.826 1.276,-3.826 1.276,-2.53 1.632,-2.53
  region: 2.282,-3.826 1.926,-3.826 1.926,-2.53 2.282,-2.53
  region: 2.932,-3.826 2.576,-3.826 2.576,-2.53 2.932,-2.53
  region: 3.582,-3.826 3.226,-3.826 3.226,-2.53 3.582,-2.53
  region: 4.232,-3.826 3.876,-3.826 3.876,-2.53 4.232,-2.53
  region: 4.232,2.753 3.876,2.753 3.876,4.048 4.232,4.048
  region: 3.582,2.753 3.226,2.753 3.226,4.048 3.582,4.048
  region: 2.932,2.753 2.576,2.753 2.576,4.048 2.932,4.048
  region: 2.282,2.753 1.926,2.753 1.926,4.048 2.282,4.048
  region: 1.632,2.753 1.276,2.753 1.276,4.048 1.632,4.048
  region: 0.982,2.753 0.626,2.753 0.626,4.048 0.982,4.048
  region: 0.332,2.753 -0.024,2.753 -0.024,4.048 0.332,4.048
  region: -0.318,2.753 -0.674,2.753 -0.674,4.048 -0.318,4.048
  region: -0.968,2.753 -1.324,2.753 -1.324,4.048 -0.968,4.048
  region: -1.618,2.753 -1.974,2.753 -1.974,4.048 -1.618,4.048
  region: -2.268,2.753 -2.624,2.753 -2.624,4.048 -2.268,4.048
  region: -2.918,2.753 -3.274,2.753 -3.274,4.048 -2.918,4.048
  region: -3.568,2.753 -3.924,2.753 -3.924,4.048 -3.568,4.048
  region: -4.218,2.753 -4.574,2.753 -4.574,4.048 -4.218,4.048
Mechanical 15:
  region: 4.909,-2.489 -5.251,-2.489 -5.251,2.711 4.909,2.711
3D body "step_temp.STEP": height 2, standoff 0, extent -5.271,-3.789 4.929,4.011

## HRO_PJ-320D-A [mm]
pads (6):
  rect 1.2x2.5 smd: 1(6.338,-3.202) 2(5.238,3.298) 3(1.238,3.298) 4(-1.762,3.298)
  round 1 hole 1 unplated: ""(-3.362,0.048) ""(3.638,0.048)
Top Overlay:
  circle w0.2: c6.338,-5.452 r0.1
  lines w0.127: -2.682,3.098 -6.962,3.098 -6.962,-3.002 5.418,-3.002 ; 6.158,3.098 7.138,3.098 7.138,-1.632
Mechanical 13:
  circle w0.2: c6.338,-5.452 r0.1
  lines w0.127: -4.962,-3.002 -4.422,-3.002 7.138,-3.002 7.138,3.098 -4.422,3.098 -4.962,3.098 ; -4.962,-3.002 -6.962,-3.002 -6.962,3.098 -4.962,3.098 ; -4.962,-3.002 -4.962,3.098
Mechanical 15:
  lines w0.05: -7.212,-4.702 -7.212,4.798 7.388,4.798 7.388,-4.702 -7.212,-4.702
3D body "step_temp.STEP": height 5.3, standoff -0.7, extent -6.962,-3.952 7.138,4.048

## JACK_DC [mm]
pads (3):
  oval 4.4x2.2 hole 1.02 square: 1(0.022,6.092)
  oval 3.8x1.9 hole 0.76 square: 2(0.022,0.137)
  oval 1.9x3.8 hole 0.76 square: 3(4.712,3.387)
Top Overlay:
  circle w0.2: c0.022,7.837 r0.1
  lines w0.127: -2.498,6.862 -4.378,6.862 -4.378,-7.353 4.422,-7.353 4.422,1.167 ; 2.542,6.862 4.422,6.862 4.422,5.607
Mechanical 13:
  circle w0.2: c0.022,7.837 r0.1
  lines w0.127: -4.378,-3.953 -4.378,6.147 ; -4.378,-3.953 -4.378,-7.353 4.422,-7.353 4.422,-3.953 ; -4.378,-3.953 4.422,-3.953 ; -4.378,6.147 -4.378,6.862 4.422,6.862 4.422,6.147 ; -4.378,6.147 4.422,6.147 ; 4.422,-3.953 4.422,6.147
Mechanical 15:
  lines w0.05: -4.628,-7.603 -4.628,7.437 4.672,7.437 4.672,5.537 5.912,5.537 5.912,1.237 4.672,1.237 4.672,-7.603 -4.628,-7.603
3D body "EJ508A--3DModel-STEP-56544.STEP": height 10.88, standoff -4.27, extent -4.399,-7.499 5.151,6.921

## K4F8E304HB-MGCJ [mm]
pads (200):
  round 0.38 smd: A1(-4.4,6.825) A2(-3.6,6.825) A3(-2.8,6.825) A4(-2,6.825) A5(-1.2,6.825) A8(1.2,6.825) A9(2,6.825) A10(2.8,6.825) A11(3.6,6.825) A12(4.4,6.825) AA1(-4.4,-6.175) AA2(-3.6,-6.175) AA3(-2.8,-6.175) AA4(-2,-6.175) AA5(-1.2,-6.175) AA8(1.2,-6.175) AA9(2,-6.175) AA10(2.8,-6.175) AA11(3.6,-6.175) AA12(4.4,-6.175) AB1(-4.4,-6.825) AB2(-3.6,-6.825) AB3(-2.8,-6.825) AB4(-2,-6.825) AB5(-1.2,-6.825) AB8(1.2,-6.825) AB9(2,-6.825) AB10(2.8,-6.825) AB11(3.6,-6.825) AB12(4.4,-6.825) B1(-4.4,6.175) B2(-3.6,6.175) B3(-2.8,6.175) B4(-2,6.175) B5(-1.2,6.175) B8(1.2,6.175) B9(2,6.175) B10(2.8,6.175) B11(3.6,6.175) B12(4.4,6.175) C1(-4.4,5.525) C2(-3.6,5.525) C3(-2.8,5.525) C4(-2,5.525) C5(-1.2,5.525) C8(1.2,5.525) C9(2,5.525) C10(2.8,5.525) C11(3.6,5.525) C12(4.4,5.525) D1(-4.4,4.875) D2(-3.6,4.875) D3(-2.8,4.875) D4(-2,4.875) D5(-1.2,4.875) D8(1.2,4.875) D9(2,4.875) D10(2.8,4.875) D11(3.6,4.875) D12(4.4,4.875) E1(-4.4,4.225) E2(-3.6,4.225) E3(-2.8,4.225) E4(-2,4.225) E5(-1.2,4.225) E8(1.2,4.225) E9(2,4.225) E10(2.8,4.225) E11(3.6,4.225) E12(4.4,4.225) F1(-4.4,3.575) F2(-3.6,3.575) F3(-2.8,3.575) F4(-2,3.575) F5(-1.2,3.575) F8(1.2,3.575) F9(2,3.575) F10(2.8,3.575) F11(3.6,3.575) F12(4.4,3.575) G1(-4.4,2.925) G2(-3.6,2.925) G3(-2.8,2.925) G4(-2,2.925) G5(-1.2,2.925) G8(1.2,2.925) G9(2,2.925) G10(2.8,2.925) G11(3.6,2.925) G12(4.4,2.925) H1(-4.4,2.275) H2(-3.6,2.275) H3(-2.8,2.275) H4(-2,2.275) H5(-1.2,2.275) H8(1.2,2.275) H9(2,2.275) H10(2.8,2.275) H11(3.6,2.275) H12(4.4,2.275) J1(-4.4,1.625) J2(-3.6,1.625) J3(-2.8,1.625) J4(-2,1.625) J5(-1.2,1.625) J8(1.2,1.625) J9(2,1.625) J10(2.8,1.625) J11(3.6,1.625) J12(4.4,1.625) K1(-4.4,0.975) K2(-3.6,0.975) K3(-2.8,0.975) K4(-2,0.975) K5(-1.2,0.975) K8(1.2,0.975) K9(2,0.975) K10(2.8,0.975) K11(3.6,0.975) K12(4.4,0.975) N1(-4.4,-0.975) N2(-3.6,-0.975) N3(-2.8,-0.975) N4(-2,-0.975) N5(-1.2,-0.975) N8(1.2,-0.975) N9(2,-0.975) N10(2.8,-0.975) N11(3.6,-0.975) N12(4.4,-0.975) P1(-4.4,-1.625) P2(-3.6,-1.625) P3(-2.8,-1.625) P4(-2,-1.625) P5(-1.2,-1.625) P8(1.2,-1.625) P9(2,-1.625) P10(2.8,-1.625) P11(3.6,-1.625) P12(4.4,-1.625) R1(-4.4,-2.275) R2(-3.6,-2.275) R3(-2.8,-2.275) R4(-2,-2.275) R5(-1.2,-2.275) R8(1.2,-2.275) R9(2,-2.275) R10(2.8,-2.275) R11(3.6,-2.275) R12(4.4,-2.275) T1(-4.4,-2.925) T2(-3.6,-2.925) T3(-2.8,-2.925) T4(-2,-2.925) T5(-1.2,-2.925) T8(1.2,-2.925) T9(2,-2.925) T10(2.8,-2.925) T11(3.6,-2.925) T12(4.4,-2.925) U1(-4.4,-3.575) U2(-3.6,-3.575) U3(-2.8,-3.575) U4(-2,-3.575) U5(-1.2,-3.575) U8(1.2,-3.575) U9(2,-3.575) U10(2.8,-3.575) U11(3.6,-3.575) U12(4.4,-3.575) V1(-4.4,-4.225) V2(-3.6,-4.225) V3(-2.8,-4.225) V4(-2,-4.225) V5(-1.2,-4.225) V8(1.2,-4.225) V9(2,-4.225) V10(2.8,-4.225) V11(3.6,-4.225) V12(4.4,-4.225) W1(-4.4,-4.875) W2(-3.6,-4.875) W3(-2.8,-4.875) W4(-2,-4.875) W5(-1.2,-4.875) W8(1.2,-4.875) W9(2,-4.875) W10(2.8,-4.875) W11(3.6,-4.875) W12(4.4,-4.875) Y1(-4.4,-5.525) Y2(-3.6,-5.525) Y3(-2.8,-5.525) Y4(-2,-5.525) Y5(-1.2,-5.525) Y8(1.2,-5.525) Y9(2,-5.525) Y10(2.8,-5.525) Y11(3.6,-5.525) Y12(4.4,-5.525)
Top Overlay:
  circle w0.2: c-5.55,6.9 r0.1
  lines w0.127: -5,-3.775 -5,-7.335 -2.525,-7.335 ; -5,3.775 -5,7.335 -2.525,7.335 ; 2.525,-7.335 5,-7.335 5,-3.775 ; 2.525,7.335 5,7.335 5,3.775
Mechanical 13:
  circle w0.2: c-5.55,6.9 r0.1
  lines w0.127: -5,-7.25 5,-7.25 5,7.25 -5,7.25 -5,-7.25
Mechanical 15:
  lines w0.05: -6,-8.25 6,-8.25 6,8.25 -6,8.25 -6,-8.25
3D body "step_temp.STEP": height 1.1, standoff 0, extent -5,-7.25 5,7.25

## MT6631 [mm]
pads (41):
  rect 0.5x0.25 smd paste+0 mask+0.051: 1(-2.4,1.8) 2(-2.4,1.4) 3(-2.4,1) 4(-2.4,0.6) 5(-2.4,0.2) 6(-2.4,-0.2) 7(-2.4,-0.6) 8(-2.4,-1) 9(-2.4,-1.4) 10(-2.4,-1.8) 21(2.4,-1.8) 22(2.4,-1.4) 23(2.4,-1) 24(2.4,-0.6) 25(2.4,-0.2) 26(2.4,0.2) 27(2.4,0.6) 28(2.4,1) 29(2.4,1.4) 30(2.4,1.8)
  rect 0.25x0.5 smd paste+0 mask+0.051: 11(-1.8,-2.4) 12(-1.4,-2.4) 13(-1,-2.4) 14(-0.6,-2.4) 15(-0.2,-2.4) 16(0.2,-2.4) 17(0.6,-2.4) 18(1,-2.4) 19(1.4,-2.4) 20(1.8,-2.4) 31(1.8,2.4) 32(1.4,2.4) 33(1,2.4) 34(0.6,2.4) 35(0.2,2.4) 36(-0.2,2.4) 37(-0.6,2.4) 38(-1,2.4) 39(-1.4,2.4) 40(-1.8,2.4)
  rect 3.5x3.5 smd paste+0 mask+0.051: 41(0,0)
Top Overlay:
  lines w0.152: -2.5,-2.1 -2.5,-2.5 -2.1,-2.5 ; -2.5,2.1 -2.5,2.3 -2.3,2.5 -2.1,2.5 ; 2.1,-2.5 2.5,-2.5 2.5,-2.1 ; 2.1,2.5 2.5,2.5 2.5,2.1
  lines w0.2: -2.8,2.196 cw(c-2.9,2.198) -2.8,2.2
Mechanical 1:
  pour cut-out: -2.667,2.667 2.667,2.667 2.667,-2.667 -2.667,-2.667
Mechanical 15:
  lines w0.003: 0.206,0.127 0.206,0.127
  lines w0.05: -3.175,-3.175 -3.175,3.175 3.175,3.175 3.175,-3.175 -3.175,-3.175
3D body: height 0.25, standoff 0, extent -2.667,-2.667 2.667,2.667

## OSCCC320X250X90N [mm]
pads (4):
  rect 1.11x1.21 smd: 1(-0.855,1.237) 2(-0.855,-1.063) 3(0.845,-1.063) 4(0.845,1.237)
Top Overlay:
  circle w0.2: c-2.105,1.187 r0.1
  lines w0.127: -1.255,-0.138 -1.255,0.312 ; 1.245,-0.138 1.245,0.312
Mechanical 13:
  circle w0.2: c-2.105,1.187 r0.1
  lines w0.127: -1.255,-1.513 1.245,-1.513 1.245,1.687 -1.255,1.687 -1.255,-1.513
Mechanical 15:
  lines w0.05: -1.66,-1.918 -1.66,2.092 1.65,2.092 1.65,-1.918 -1.66,-1.918
3D body "NX3225SA-26.000000MHZ-G3.STEP": height 0.6, standoff 0, extent -1.255,-1.513 1.245,1.687

## QFN50P900X900X100-65N-D [mm]
pads (65):
  rect 0.85x0.3 smd: 1(-4.45,3.75) 2(-4.45,3.25) 3(-4.45,2.75) 4(-4.45,2.25) 5(-4.45,1.75) 6(-4.45,1.25) 7(-4.45,0.75) 8(-4.45,0.25) 9(-4.45,-0.25) 10(-4.45,-0.75) 11(-4.45,-1.25) 12(-4.45,-1.75) 13(-4.45,-2.25) 14(-4.45,-2.75) 15(-4.45,-3.25) 16(-4.45,-3.75) 33(4.45,-3.75) 34(4.45,-3.25) 35(4.45,-2.75) 36(4.45,-2.25) 37(4.45,-1.75) 38(4.45,-1.25) 39(4.45,-0.75) 40(4.45,-0.25) 41(4.45,0.25) 42(4.45,0.75) 43(4.45,1.25) 44(4.45,1.75) 45(4.45,2.25) 46(4.45,2.75) 47(4.45,3.25) 48(4.45,3.75)
  rect 0.3x0.85 smd: 17(-3.75,-4.45) 18(-3.25,-4.45) 19(-2.75,-4.45) 20(-2.25,-4.45) 21(-1.75,-4.45) 22(-1.25,-4.45) 23(-0.75,-4.45) 24(-0.25,-4.45) 25(0.25,-4.45) 26(0.75,-4.45) 27(1.25,-4.45) 28(1.75,-4.45) 29(2.25,-4.45) 30(2.75,-4.45) 31(3.25,-4.45) 32(3.75,-4.45) 49(3.75,4.45) 50(3.25,4.45) 51(2.75,4.45) 52(2.25,4.45) 53(1.75,4.45) 54(1.25,4.45) 55(0.75,4.45) 56(0.25,4.45) 57(-0.25,4.45) 58(-0.75,4.45) 59(-1.25,4.45) 60(-1.75,4.45) 61(-2.25,4.45) 62(-2.75,4.45) 63(-3.25,4.45) 64(-3.75,4.45)
  rect 3.98x3.98 smd: 65(0,0)
Top Overlay:
  circle w0.25: c-4.875,4.5 r0.125
Mechanical 13:
  lines w0.1: -4.5,4 -4,4.5 ; -4.5,-4.5 4.5,-4.5 4.5,4.5 -4.5,4.5 -4.5,-4.5
Mechanical 15:
  lines w0.05: -5.125,-5.125 5.125,-5.125 5.125,5.125 -5.125,5.125 -5.125,-5.125
3D body "IT66121FN.stp": height 1, standoff 0, extent -4.55,-4.55 4.55,4.55

## RJ458Z4 [mm]
pads (12):
  round 1.493 hole 0.96: 1(0,0) 2(2.54,-1.27) 3(0,-2.54) 4(2.54,-3.81) 5(0,-5.08) 6(2.54,-6.35) 7(0,-7.62) 8(2.54,-8.89)
  round 3.015 hole 2.01: MH1(-9.4,3.68) MH2(-9.4,-12.57)
  round 1.665 hole 3.33 unplated: MH3(-6.35,1.27) MH4(-6.35,-10.16)
Top Overlay:
  lines w0.1: -14.25,-12.445 -14.25,3.555 -14.23,3.555 ; -14.25,-12.445 -14.23,-12.445 -14.23,3.555 ; -14.25,-12.445 -12,-12.445 -14.25,-12.445 ; -14.23,3.555 -11.5,3.555 -14.23,3.555 ; 4.57,-12.445 4.57,3.555 ; 4.57,-12.445 4.57,3.555 ; 4.57,-12.445 -5.25,-12.445 4.57,-12.445 ; 4.57,3.555 -7,3.555 4.57,3.555
  lines w0.2: 6,0 ccw(c6.05,0) 6.1,0 ; 6,0 cw(c6.05,0) 6.1,0 ; 6,0 ccw(c6.05,0) 6.1,0
Mechanical 13:
  lines w0.2: -14.23,-12.445 -14.23,3.555 4.57,3.555 4.57,-12.445 -14.23,-12.445
Mechanical 15:
  lines w0.1: -15.25,-15.078 -15.25,6.188 7.1,6.188 7.1,-15.078 -15.25,-15.078
3D body "RJ45-8Z4.stp": height 13.28, standoff -4, extent -14.108,-13.294 4.688,4.574

## RTL8201F [mm]
pads (33):
  rect 0.85x0.3 smd: 1(-2.45,1.75) 2(-2.45,1.25) 3(-2.45,0.75) 4(-2.45,0.25) 5(-2.45,-0.25) 6(-2.45,-0.75) 7(-2.45,-1.25) 8(-2.45,-1.75) 17(2.45,-1.75) 18(2.45,-1.25) 19(2.45,-0.75) 20(2.45,-0.25) 21(2.45,0.25) 22(2.45,0.75) 23(2.45,1.25) 24(2.45,1.75)
  rect 0.3x0.85 smd: 9(-1.75,-2.45) 10(-1.25,-2.45) 11(-0.75,-2.45) 12(-0.25,-2.45) 13(0.25,-2.45) 14(0.75,-2.45) 15(1.25,-2.45) 16(1.75,-2.45) 25(1.75,2.45) 26(1.25,2.45) 27(0.75,2.45) 28(0.25,2.45) 29(-0.25,2.45) 30(-0.75,2.45) 31(-1.25,2.45) 32(-1.75,2.45)
  rect 3.6x3.6 smd: 33(0,0)
Top Overlay:
  circle w0.25: c-2.875,2.5 r0.125
Mechanical 13:
  lines w0.1: -2.5,2 -2,2.5 ; -2.5,-2.5 -2.5,2.5 2.5,2.5 2.5,-2.5 -2.5,-2.5
Mechanical 15:
  lines w0.05: -3.125,-3.125 -3.125,3.125 3.125,3.125 3.125,-3.125 -3.125,-3.125
3D body "RTL8201F-VB-CG.stp": height 1, standoff 0, extent -2.55,-2.55 2.55,2.55

## SAMTEC_ZF1-15-01-X-WT-XX [mm]
pads (17):
  rect 0.6x1.8 smd: 01(-6.579,3.195) 02(-5.579,3.195) 03(-4.579,3.195) 04(-3.579,3.195) 05(-2.579,3.195) 06(-1.579,3.195) 07(-0.579,3.195) 08(0.421,3.195) 09(1.421,3.195) 10(2.421,3.195) 11(3.421,3.195) 12(4.421,3.195) 13(5.421,3.195) 14(6.421,3.195) 15(7.421,3.195)
  rect 2.2x2.5 smd: S1(-9.179,0.655) S2(10.021,0.655)
Top Overlay:
  circle w0.2: c-7.414,3.18 r0.1
  lines w0.2: -10.629,1.905 -10.629,-3.495 11.471,-3.495 11.471,1.905 ; -7.079,1.905 7.921,1.905
Mechanical 13:
  circle w0.2: c-7.414,3.18 r0.1
  lines w0.1: -10.579,-3.495 11.421,-3.495 11.421,1.905 -10.579,1.905 -10.579,-3.495
Mechanical 15:
  lines w0.05: -10.829,-3.745 -10.829,2.155 -7.129,2.155 -7.129,4.345 7.971,4.345 7.971,2.155 11.671,2.155 11.671,-3.745 -10.829,-3.745
3D body "ZF1-15-01-T-WT.stp": height 3.03, standoff 0.03, extent -10.584,-3.536 11.426,3.373